# EAGLE library part FTSH-105-01-F-D-K (library KVB-connectors)
10 Positions Header Unshrouded Connector 0.050" (1.27mm) Through Hole Gold
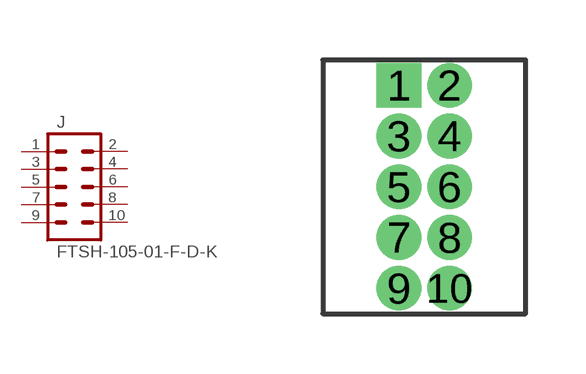
[diagram p0: symbol with the pads of FTSH-105-01-F-D-K; footprint FTSH-105-01-F-D-K]

Designator prefix J

## FTSH-105-01-F-D-K  [FTSH-105-01-F-D-K]
1  1  pas
2  2  pas
3  3  pas
4  4  pas
5  5  pas
6  6  pas
7  7  pas
8  8  pas
9  9  pas
10  10  pas

## Footprint FTSH-105-01-F-D-K (pad centres in mm)
drill 0.61 pad 0.864 square: 1 -0.635,2.54
drill 0.61 pad 0.864: 2 0.635,2.54; 3 -0.635,1.27; 4 0.635,1.27; 5 -0.635,0; 6 0.635,0; 7 -0.635,-1.27; 8 0.635,-1.27; 9 -0.635,-2.54; 10 0.635,-2.54